# Altium schematic symbol library jlcpcb_2025_04_inductors_extended_1008.schlib: 378 symbols (part 5 of 7)
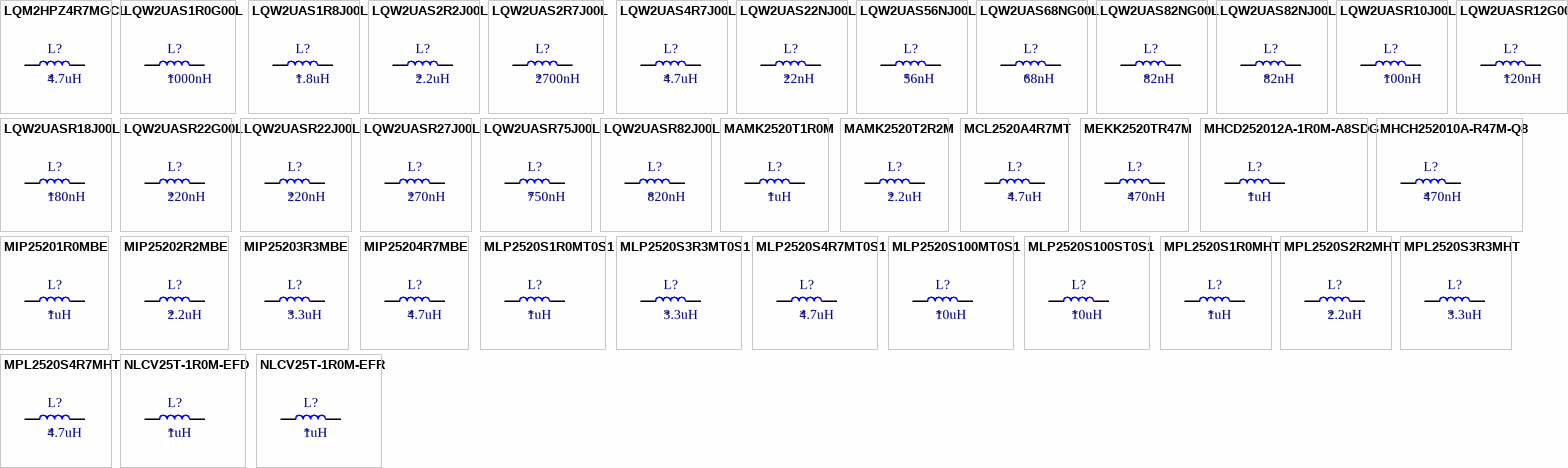
[diagram p13: symbols LQM2HPZ4R7MGCL to NLCV25T-1R0M-EFR]

## LQW2UASR18J00L
designator L?  Inductance: 180nH
Inductor, 180nH, ±5%, 770mΩ, 620mA, SMD 1008; Manufacturer: Murata Electronics; Manufacturer Part Number: LQW2UASR18J00L; Self-Resonant Frequency: 750MHz; Q Factor: 45@100MHz; Package Size: 1008; JLCPCB Basic Part: No; JLCPCB Part Number: C162664; Supplier 1: LCSC; Category: Inductors; Supplier Part Number 1: C162664; Tolerance: ±5%; Rated Current: 620mA; DC Resistance: 770mΩ; RoHS: Yes; ComponentLink1Description: Datasheet; ComponentLink1URL: https://wmsc.lcsc.com/wmsc/upload/file/pdf/v2/lcsc/2304140030_Murata-Electronics-LQW2UASR18J00L_C162664.pdf; ComponentLink2Description: JLCPCB Part URL; ComponentLink2URL: https://jlcpcb.com/partdetail/C162664; ComponentLink3Description: LCSC Part URL; ComponentLink3URL: https://lcsc.com/product-detail/Inductors-SMD_Murata-Electronics-Murata-Electronics-LQW2UASR18J00L_C162664.html
footprint IND-1008 (1008 (2520M) Inductor)
pins: 1, 2

## LQW2UASR22G00L
designator L?  Inductance: 220nH
Inductor, 220nH, ±2%, 840mΩ, 500mA, SMD 1008; Manufacturer: Murata Electronics; Manufacturer Part Number: LQW2UASR22G00L; Package Size: 1008; JLCPCB Basic Part: No; JLCPCB Part Number: C703148; Supplier 1: LCSC; Category: Inductors; Supplier Part Number 1: C703148; Tolerance: ±2%; Rated Current: 500mA; DC Resistance: 840mΩ; RoHS: Yes; ComponentLink1Description: Datasheet; ComponentLink1URL: https://wmsc.lcsc.com/wmsc/upload/file/pdf/v2/lcsc/2304140030_Murata-Electronics-LQW2UASR22G00L_C703148.pdf; ComponentLink2Description: JLCPCB Part URL; ComponentLink2URL: https://jlcpcb.com/partdetail/C703148; ComponentLink3Description: LCSC Part URL; ComponentLink3URL: https://lcsc.com/product-detail/Power-Inductors_Murata-Electronics-Murata-Electronics-LQW2UASR22G00L_C703148.html
footprint IND-1008 (1008 (2520M) Inductor)
pins: 1, 2

## LQW2UASR22J00L
designator L?  Inductance: 220nH
Inductor, 220nH, ±5%, 840mΩ, SMD 1008; Manufacturer: Murata Electronics; Manufacturer Part Number: LQW2UASR22J00L; Self-Resonant Frequency: 700MHz; Q Factor: 45@100MHz; Package Size: 1008; JLCPCB Basic Part: No; JLCPCB Part Number: C162665; Supplier 1: LCSC; Category: Inductors; Supplier Part Number 1: C162665; Tolerance: ±5%; DC Resistance: 840mΩ; RoHS: Yes; ComponentLink1Description: Datasheet; ComponentLink1URL: https://wmsc.lcsc.com/wmsc/upload/file/pdf/v2/lcsc/2304140030_Murata-Electronics-LQW2UASR22J00L_C162665.pdf; ComponentLink2Description: JLCPCB Part URL; ComponentLink2URL: https://jlcpcb.com/partdetail/C162665; ComponentLink3Description: LCSC Part URL; ComponentLink3URL: https://lcsc.com/product-detail/Inductors-SMD_Murata-Electronics-Murata-Electronics-LQW2UASR22J00L_C162665.html
footprint IND-1008 (1008 (2520M) Inductor)
pins: 1, 2

## LQW2UASR27J00L
designator L?  Inductance: 270nH
Inductor, 270nH, ±5%, 910mΩ, 500mA, SMD 1008; Manufacturer: Murata Electronics; Manufacturer Part Number: LQW2UASR27J00L; Package Size: 1008; JLCPCB Basic Part: No; JLCPCB Part Number: C703705; Supplier 1: LCSC; Category: Inductors; Supplier Part Number 1: C703705; Tolerance: ±5%; Rated Current: 500mA; DC Resistance: 910mΩ; RoHS: Yes; ComponentLink1Description: Datasheet; ComponentLink1URL: https://wmsc.lcsc.com/wmsc/upload/file/pdf/v2/lcsc/2304140030_Murata-Electronics-LQW2UASR27J00L_C703705.pdf; ComponentLink2Description: JLCPCB Part URL; ComponentLink2URL: https://jlcpcb.com/partdetail/C703705; ComponentLink3Description: LCSC Part URL; ComponentLink3URL: https://lcsc.com/product-detail/Power-Inductors_Murata-Electronics-Murata-Electronics-LQW2UASR27J00L_C703705.html
footprint IND-1008 (1008 (2520M) Inductor)
pins: 1, 2

## LQW2UASR75J00L
designator L?  Inductance: 750nH
Inductor, 750nH, ±5%, 1.54Ω, SMD 1008; Manufacturer: Murata Electronics; Manufacturer Part Number: LQW2UASR75J00L; Self-Resonant Frequency: 360MHz; Q Factor: 45@100MHz; Package Size: 1008; JLCPCB Basic Part: No; JLCPCB Part Number: C162667; Supplier 1: LCSC; Category: Inductors; Supplier Part Number 1: C162667; Tolerance: ±5%; DC Resistance: 1.54Ω; RoHS: Yes; ComponentLink1Description: Datasheet; ComponentLink1URL: https://wmsc.lcsc.com/wmsc/upload/file/pdf/v2/lcsc/2304140030_Murata-Electronics-LQW2UASR75J00L_C162667.pdf; ComponentLink2Description: JLCPCB Part URL; ComponentLink2URL: https://jlcpcb.com/partdetail/C162667; ComponentLink3Description: LCSC Part URL; ComponentLink3URL: https://lcsc.com/product-detail/Inductors-SMD_Murata-Electronics-Murata-Electronics-LQW2UASR75J00L_C162667.html
footprint IND-1008 (1008 (2520M) Inductor)
pins: 1, 2

## LQW2UASR82J00L
designator L?  Inductance: 820nH
Inductor, 820nH, ±5%, 1.61Ω, 400mA, SMD 1008; Manufacturer: Murata Electronics; Manufacturer Part Number: LQW2UASR82J00L; Package Size: 1008; JLCPCB Basic Part: No; JLCPCB Part Number: C701161; Supplier 1: LCSC; Category: Inductors; Supplier Part Number 1: C701161; Tolerance: ±5%; Rated Current: 400mA; DC Resistance: 1.61Ω; RoHS: Yes; ComponentLink1Description: Datasheet; ComponentLink1URL: https://wmsc.lcsc.com/wmsc/upload/file/pdf/v2/lcsc/2009241508_Murata-Electronics-LQW2UASR82J00L_C701161.pdf; ComponentLink2Description: JLCPCB Part URL; ComponentLink2URL: https://jlcpcb.com/partdetail/C701161; ComponentLink3Description: LCSC Part URL; ComponentLink3URL: https://lcsc.com/product-detail/Power-Inductors_Murata-Electronics-Murata-Electronics-LQW2UASR82J00L_C701161.html
footprint IND-1008 (1008 (2520M) Inductor)
pins: 1, 2

## MAMK2520T1R0M
designator L?  Inductance: 1uH
Inductor, 1uH, ±20%, 59mΩ, 2.7A, SMD 1008; Manufacturer: Taiyo Yuden; Manufacturer Part Number: MAMK2520T1R0M; Package Size: 1008; JLCPCB Basic Part: No; JLCPCB Part Number: C92924; Supplier 1: LCSC; Category: Inductors; Supplier Part Number 1: C92924; Tolerance: ±20%; Rated Current: 2.7A; DC Resistance: 59mΩ; RoHS: Yes; ComponentLink1Description: Datasheet; ComponentLink1URL: https://wmsc.lcsc.com/wmsc/upload/file/pdf/v2/lcsc/1809191953_Taiyo-Yuden-MAMK2520T1R0M_C92924.pdf; ComponentLink2Description: JLCPCB Part URL; ComponentLink2URL: https://jlcpcb.com/partdetail/C92924; ComponentLink3Description: LCSC Part URL; ComponentLink3URL: https://lcsc.com/product-detail/Inductors-SMD_Taiyo-Yuden-Taiyo-Yuden-MAMK2520T1R0M_C92924.html
footprint IND-1008 (1008 (2520M) Inductor)
pins: 1, 2

## MAMK2520T2R2M
designator L?  Inductance: 2.2uH
Inductor, 2.2uH, ±20%, 117mΩ, 1.9A, SMD 1008; Manufacturer: Taiyo Yuden; Manufacturer Part Number: MAMK2520T2R2M; Package Size: 1008; JLCPCB Basic Part: No; JLCPCB Part Number: C92925; Supplier 1: LCSC; Category: Inductors; Supplier Part Number 1: C92925; Tolerance: ±20%; Rated Current: 1.9A; DC Resistance: 117mΩ; RoHS: Yes; ComponentLink1Description: Datasheet; ComponentLink1URL: https://wmsc.lcsc.com/wmsc/upload/file/pdf/v2/lcsc/1806130414_Taiyo-Yuden-MAMK2520T2R2M_C92925.pdf; ComponentLink2Description: JLCPCB Part URL; ComponentLink2URL: https://jlcpcb.com/partdetail/C92925; ComponentLink3Description: LCSC Part URL; ComponentLink3URL: https://lcsc.com/product-detail/Inductors-SMD_Taiyo-Yuden-Taiyo-Yuden-MAMK2520T2R2M_C92925.html
footprint IND-1008 (1008 (2520M) Inductor)
pins: 1, 2

## MCL2520A4R7MT
designator L?  Inductance: 4.7uH
Inductor, 4.7uH, ±20%, 280mΩ, 950mA, SMD 1008; Manufacturer: Sunlord; Manufacturer Part Number: MCL2520A4R7MT; Saturation Current: 250mA; Package Size: 1008; JLCPCB Basic Part: No; JLCPCB Part Number: C370014; Supplier 1: LCSC; Category: Inductors; Supplier Part Number 1: C370014; Tolerance: ±20%; Rated Current: 950mA; DC Resistance: 280mΩ; RoHS: Yes; ComponentLink1Description: Datasheet; ComponentLink1URL: https://wmsc.lcsc.com/wmsc/upload/file/pdf/v2/lcsc/2310301640_Sunlord-MCL2520A4R7MT_C370014.pdf; ComponentLink2Description: JLCPCB Part URL; ComponentLink2URL: https://jlcpcb.com/partdetail/C370014; ComponentLink3Description: LCSC Part URL; ComponentLink3URL: https://lcsc.com/product-detail/Inductors-SMD_Sunlord-Sunlord-MCL2520A4R7MT_C370014.html
footprint IND-1008 (1008 (2520M) Inductor)
pins: 1, 2

## MEKK2520TR47M
designator L?  Inductance: 470nH
Inductor, 470nH, ±20%, 25mΩ, 4.8A, SMD 1008; Manufacturer: Taiyo Yuden; Manufacturer Part Number: MEKK2520TR47M; Package Size: 1008; JLCPCB Basic Part: No; JLCPCB Part Number: C519277; Supplier 1: LCSC; Category: Inductors; Supplier Part Number 1: C519277; Tolerance: ±20%; Rated Current: 4.8A; DC Resistance: 25mΩ; RoHS: Yes; ComponentLink1Description: Datasheet; ComponentLink1URL: https://wmsc.lcsc.com/wmsc/upload/file/pdf/v2/lcsc/2004231532_Taiyo-Yuden-MEKK2520TR47M_C519277.pdf; ComponentLink2Description: JLCPCB Part URL; ComponentLink2URL: https://jlcpcb.com/partdetail/C519277; ComponentLink3Description: LCSC Part URL; ComponentLink3URL: https://lcsc.com/product-detail/Inductors-SMD_Taiyo-Yuden-Taiyo-Yuden-MEKK2520TR47M_C519277.html
footprint IND-1008 (1008 (2520M) Inductor)
pins: 1, 2

## MHCD252012A-1R0M-A8SDG
designator L?  Inductance: 1uH
Inductor, 1uH, ±20%, SMD 1008; Manufacturer: Chilisin Elec; Manufacturer Part Number: MHCD252012A-1R0M-A8SDG; Package Size: 1008; JLCPCB Basic Part: No; JLCPCB Part Number: C2991848; Supplier 1: LCSC; Category: Inductors; Supplier Part Number 1: C2991848; Tolerance: ±20%; RoHS: Yes; ComponentLink1Description: Datasheet; ComponentLink2Description: JLCPCB Part URL; ComponentLink2URL: https://jlcpcb.com/partdetail/C2991848; ComponentLink3Description: LCSC Part URL; ComponentLink3URL: https://lcsc.com/product-detail/Inductors-SMD_Chilisin-Elec-Chilisin-Elec-MHCD252012A-1R0M-A8SDG_C2991848.html
footprint IND-1008 (1008 (2520M) Inductor)
pins: 1, 2

## MHCH252010A-R47M-Q8
designator L?  Inductance: 470nH
Inductor, 470nH, ±20%, SMD 1008; Manufacturer: Chilisin Elec; Manufacturer Part Number: MHCH252010A-R47M-Q8; Package Size: 1008; JLCPCB Basic Part: No; JLCPCB Part Number: C2981231; Supplier 1: LCSC; Category: Inductors; Supplier Part Number 1: C2981231; Tolerance: ±20%; RoHS: Yes; ComponentLink1Description: Datasheet; ComponentLink1URL: https://wmsc.lcsc.com/wmsc/upload/file/pdf/v2/lcsc/2203252253_Chilisin-Elec-MHCH252010A-R47M-Q8_C2981231.pdf; ComponentLink2Description: JLCPCB Part URL; ComponentLink2URL: https://jlcpcb.com/partdetail/C2981231; ComponentLink3Description: LCSC Part URL; ComponentLink3URL: https://lcsc.com/product-detail/Inductors-SMD_Chilisin-Elec-Chilisin-Elec-MHCH252010A-R47M-Q8_C2981231.html
footprint IND-1008 (1008 (2520M) Inductor)
pins: 1, 2

## MIP25201R0MBE
designator L?  Inductance: 1uH
Inductor, 1uH, ±20%, 55mΩ, 1.6A, SMD 1008; Manufacturer: INPAQ; Manufacturer Part Number: MIP25201R0MBE; Package Size: 1008; JLCPCB Basic Part: No; JLCPCB Part Number: C315722; Supplier 1: LCSC; Category: Inductors; Supplier Part Number 1: C315722; Tolerance: ±20%; Rated Current: 1.6A; DC Resistance: 55mΩ; RoHS: Yes; ComponentLink1Description: Datasheet; ComponentLink1URL: https://wmsc.lcsc.com/wmsc/upload/file/pdf/v2/lcsc/2304140030_INPAQ-MIP25201R0MBE_C315722.pdf; ComponentLink2Description: JLCPCB Part URL; ComponentLink2URL: https://jlcpcb.com/partdetail/C315722; ComponentLink3Description: LCSC Part URL; ComponentLink3URL: https://lcsc.com/product-detail/Inductors-SMD_INPAQ-INPAQ-MIP25201R0MBE_C315722.html
footprint IND-1008 (1008 (2520M) Inductor)
pins: 1, 2

## MIP25202R2MBE
designator L?  Inductance: 2.2uH
Inductor, 2.2uH, ±20%, 80mΩ, 1.3A, SMD 1008; Manufacturer: INPAQ; Manufacturer Part Number: MIP25202R2MBE; Package Size: 1008; JLCPCB Basic Part: No; JLCPCB Part Number: C315721; Supplier 1: LCSC; Category: Inductors; Supplier Part Number 1: C315721; Tolerance: ±20%; Rated Current: 1.3A; DC Resistance: 80mΩ; RoHS: Yes; ComponentLink1Description: Datasheet; ComponentLink1URL: https://wmsc.lcsc.com/wmsc/upload/file/pdf/v2/lcsc/2304140030_INPAQ-MIP25202R2MBE_C315721.pdf; ComponentLink2Description: JLCPCB Part URL; ComponentLink2URL: https://jlcpcb.com/partdetail/C315721; ComponentLink3Description: LCSC Part URL; ComponentLink3URL: https://lcsc.com/product-detail/Inductors-SMD_INPAQ-INPAQ-MIP25202R2MBE_C315721.html
footprint IND-1008 (1008 (2520M) Inductor)
pins: 1, 2

## MIP25203R3MBE
designator L?  Inductance: 3.3uH
Inductor, 3.3uH, ±20%, 100mΩ, 1.2A, SMD 1008; Manufacturer: INPAQ; Manufacturer Part Number: MIP25203R3MBE; Package Size: 1008; JLCPCB Basic Part: No; JLCPCB Part Number: C315720; Supplier 1: LCSC; Category: Inductors; Supplier Part Number 1: C315720; Tolerance: ±20%; Rated Current: 1.2A; DC Resistance: 100mΩ; RoHS: Yes; ComponentLink1Description: Datasheet; ComponentLink1URL: https://wmsc.lcsc.com/wmsc/upload/file/pdf/v2/lcsc/2304140030_INPAQ-MIP25203R3MBE_C315720.pdf; ComponentLink2Description: JLCPCB Part URL; ComponentLink2URL: https://jlcpcb.com/partdetail/C315720; ComponentLink3Description: LCSC Part URL; ComponentLink3URL: https://lcsc.com/product-detail/Inductors-SMD_INPAQ-INPAQ-MIP25203R3MBE_C315720.html
footprint IND-1008 (1008 (2520M) Inductor)
pins: 1, 2

## MIP25204R7MBE
designator L?  Inductance: 4.7uH
Inductor, 4.7uH, ±20%, 110mΩ, 1.1A, SMD 1008; Manufacturer: INPAQ; Manufacturer Part Number: MIP25204R7MBE; Package Size: 1008; JLCPCB Basic Part: No; JLCPCB Part Number: C315719; Supplier 1: LCSC; Category: Inductors; Supplier Part Number 1: C315719; Tolerance: ±20%; Rated Current: 1.1A; DC Resistance: 110mΩ; RoHS: Yes; ComponentLink1Description: Datasheet; ComponentLink1URL: https://wmsc.lcsc.com/wmsc/upload/file/pdf/v2/lcsc/2304140030_INPAQ-MIP25204R7MBE_C315719.pdf; ComponentLink2Description: JLCPCB Part URL; ComponentLink2URL: https://jlcpcb.com/partdetail/C315719; ComponentLink3Description: LCSC Part URL; ComponentLink3URL: https://lcsc.com/product-detail/Inductors-SMD_INPAQ-INPAQ-MIP25204R7MBE_C315719.html
footprint IND-1008 (1008 (2520M) Inductor)
pins: 1, 2

## MLP2520S1R0MT0S1
designator L?  Inductance: 1uH
Inductor, 1uH, ±20%, 110.5mΩ, 1.5A, SMD 1008; Manufacturer: TDK; Manufacturer Part Number: MLP2520S1R0MT0S1; Package Size: 1008; JLCPCB Basic Part: No; JLCPCB Part Number: C76795; Supplier 1: LCSC; Category: Inductors; Supplier Part Number 1: C76795; Tolerance: ±20%; Rated Current: 1.5A; DC Resistance: 110.5mΩ; RoHS: Yes; ComponentLink1Description: Datasheet; ComponentLink1URL: https://wmsc.lcsc.com/wmsc/upload/file/pdf/v2/lcsc/2304140030_TDK-MLP2520S1R0MT0S1_C76795.pdf; ComponentLink2Description: JLCPCB Part URL; ComponentLink2URL: https://jlcpcb.com/partdetail/C76795; ComponentLink3Description: LCSC Part URL; ComponentLink3URL: https://lcsc.com/product-detail/Inductors-SMD_TDK-TDK-MLP2520S1R0MT0S1_C76795.html
footprint IND-1008 (1008 (2520M) Inductor)
pins: 1, 2

## MLP2520S3R3MT0S1
designator L?  Inductance: 3.3uH
Inductor, 3.3uH, ±20%, 130mΩ, 1A, SMD 1008; Manufacturer: TDK; Manufacturer Part Number: MLP2520S3R3MT0S1; Package Size: 1008; JLCPCB Basic Part: No; JLCPCB Part Number: C2049754; Supplier 1: LCSC; Category: Inductors; Supplier Part Number 1: C2049754; Tolerance: ±20%; Rated Current: 1A; DC Resistance: 130mΩ; RoHS: Yes; ComponentLink1Description: Datasheet; ComponentLink1URL: https://wmsc.lcsc.com/wmsc/upload/file/pdf/v2/lcsc/2304140030_TDK-MLP2520S3R3MT0S1_C2049754.pdf; ComponentLink2Description: JLCPCB Part URL; ComponentLink2URL: https://jlcpcb.com/partdetail/C2049754; ComponentLink3Description: LCSC Part URL; ComponentLink3URL: https://lcsc.com/product-detail/Inductors-SMD_TDK-TDK-MLP2520S3R3MT0S1_C2049754.html
footprint IND-1008 (1008 (2520M) Inductor)
pins: 1, 2

## MLP2520S4R7MT0S1
designator L?  Inductance: 4.7uH
Inductor, 4.7uH, ±20%, 130mΩ, 1A, SMD 1008; Manufacturer: TDK; Manufacturer Part Number: MLP2520S4R7MT0S1; Package Size: 1008; JLCPCB Basic Part: No; JLCPCB Part Number: C91237; Supplier 1: LCSC; Category: Inductors; Supplier Part Number 1: C91237; Tolerance: ±20%; Rated Current: 1A; DC Resistance: 130mΩ; RoHS: Yes; ComponentLink1Description: Datasheet; ComponentLink1URL: https://wmsc.lcsc.com/wmsc/upload/file/pdf/v2/lcsc/1810241907_TDK-MLP2520S4R7MT0S1_C91237.pdf; ComponentLink2Description: JLCPCB Part URL; ComponentLink2URL: https://jlcpcb.com/partdetail/C91237; ComponentLink3Description: LCSC Part URL; ComponentLink3URL: https://lcsc.com/product-detail/Inductors-SMD_TDK-TDK-MLP2520S4R7MT0S1_C91237.html
footprint IND-1008 (1008 (2520M) Inductor)
pins: 1, 2

## MLP2520S100MT0S1
designator L?  Inductance: 10uH
Inductor, 10uH, ±20%, 280mΩ, 700mA, SMD 1008; Manufacturer: TDK; Manufacturer Part Number: MLP2520S100MT0S1; Package Size: 1008; JLCPCB Basic Part: No; JLCPCB Part Number: C191565; Supplier 1: LCSC; Category: Inductors; Supplier Part Number 1: C191565; Tolerance: ±20%; Rated Current: 700mA; DC Resistance: 280mΩ; RoHS: Yes; ComponentLink1Description: Datasheet; ComponentLink1URL: https://wmsc.lcsc.com/wmsc/upload/file/pdf/v2/lcsc/1810241907_TDK-MLP2520S100MT0S1_C191565.pdf; ComponentLink2Description: JLCPCB Part URL; ComponentLink2URL: https://jlcpcb.com/partdetail/C191565; ComponentLink3Description: LCSC Part URL; ComponentLink3URL: https://lcsc.com/product-detail/Inductors-SMD_TDK-TDK-MLP2520S100MT0S1_C191565.html
footprint IND-1008 (1008 (2520M) Inductor)
pins: 1, 2

## MLP2520S100ST0S1
designator L?  Inductance: 10uH
Inductor, 10uH, ±20%, 280mΩ, 700mA, SMD 1008; Manufacturer: TDK; Manufacturer Part Number: MLP2520S100ST0S1; Package Size: 1008; JLCPCB Basic Part: No; JLCPCB Part Number: C2049757; Supplier 1: LCSC; Category: Inductors; Supplier Part Number 1: C2049757; Tolerance: ±20%; Rated Current: 700mA; DC Resistance: 280mΩ; RoHS: Yes; ComponentLink1Description: Datasheet; ComponentLink1URL: https://wmsc.lcsc.com/wmsc/upload/file/pdf/v2/lcsc/2202010500_TDK-MLP2520S100ST0S1_C2049757.pdf; ComponentLink2Description: JLCPCB Part URL; ComponentLink2URL: https://jlcpcb.com/partdetail/C2049757; ComponentLink3Description: LCSC Part URL; ComponentLink3URL: https://lcsc.com/product-detail/Inductors-SMD_TDK-TDK-MLP2520S100ST0S1_C2049757.html
footprint IND-1008 (1008 (2520M) Inductor)
pins: 1, 2

## MPL2520S1R0MHT
designator L?  Inductance: 1uH
Inductor, 1uH, ±20%, 100mΩ, 1.6A, SMD 1008; Manufacturer: Sunlord; Manufacturer Part Number: MPL2520S1R0MHT; Package Size: 1008; JLCPCB Basic Part: No; JLCPCB Part Number: C98337; Supplier 1: LCSC; Category: Inductors; Supplier Part Number 1: C98337; Tolerance: ±20%; Rated Current: 1.6A; DC Resistance: 100mΩ; RoHS: Yes; ComponentLink1Description: Datasheet; ComponentLink1URL: https://wmsc.lcsc.com/wmsc/upload/file/pdf/v2/lcsc/2304140030_Sunlord-MPL2520S1R0MHT_C98337.pdf; ComponentLink2Description: JLCPCB Part URL; ComponentLink2URL: https://jlcpcb.com/partdetail/C98337; ComponentLink3Description: LCSC Part URL; ComponentLink3URL: https://lcsc.com/product-detail/Inductors-SMD_Sunlord-Sunlord-MPL2520S1R0MHT_C98337.html
footprint IND-1008 (1008 (2520M) Inductor)
pins: 1, 2

## MPL2520S2R2MHT
designator L?  Inductance: 2.2uH
Inductor, 2.2uH, ±20%, SMD 1008; Manufacturer: Sunlord; Manufacturer Part Number: MPL2520S2R2MHT; Package Size: 1008; JLCPCB Basic Part: No; JLCPCB Part Number: C98338; Supplier 1: LCSC; Category: Inductors; Supplier Part Number 1: C98338; Tolerance: ±20%; RoHS: Yes; ComponentLink1Description: Datasheet; ComponentLink1URL: https://wmsc.lcsc.com/wmsc/upload/file/pdf/v2/lcsc/2304140030_Sunlord-MPL2520S2R2MHT_C98338.pdf; ComponentLink2Description: JLCPCB Part URL; ComponentLink2URL: https://jlcpcb.com/partdetail/C98338; ComponentLink3Description: LCSC Part URL; ComponentLink3URL: https://lcsc.com/product-detail/Inductors-SMD_Sunlord-Sunlord-MPL2520S2R2MHT_C98338.html
footprint IND-1008 (1008 (2520M) Inductor)
pins: 1, 2

## MPL2520S3R3MHT
designator L?  Inductance: 3.3uH
Inductor, 3.3uH, ±20%, 100mΩ, 1.2A, SMD 1008; Manufacturer: Sunlord; Manufacturer Part Number: MPL2520S3R3MHT; Package Size: 1008; JLCPCB Basic Part: No; JLCPCB Part Number: C98339; Supplier 1: LCSC; Category: Inductors; Supplier Part Number 1: C98339; Tolerance: ±20%; Rated Current: 1.2A; DC Resistance: 100mΩ; RoHS: Yes; ComponentLink1Description: Datasheet; ComponentLink1URL: https://wmsc.lcsc.com/wmsc/upload/file/pdf/v2/lcsc/2304140030_Sunlord-MPL2520S3R3MHT_C98339.pdf; ComponentLink2Description: JLCPCB Part URL; ComponentLink2URL: https://jlcpcb.com/partdetail/C98339; ComponentLink3Description: LCSC Part URL; ComponentLink3URL: https://lcsc.com/product-detail/Inductors-SMD_Sunlord-Sunlord-MPL2520S3R3MHT_C98339.html
footprint IND-1008 (1008 (2520M) Inductor)
pins: 1, 2

## MPL2520S4R7MHT
designator L?  Inductance: 4.7uH
Inductor, 4.7uH, ±20%, 110mΩ, 1.1A, SMD 1008; Manufacturer: Sunlord; Manufacturer Part Number: MPL2520S4R7MHT; Package Size: 1008; JLCPCB Basic Part: No; JLCPCB Part Number: C98340; Supplier 1: LCSC; Category: Inductors; Supplier Part Number 1: C98340; Tolerance: ±20%; Rated Current: 1.1A; DC Resistance: 110mΩ; RoHS: Yes; ComponentLink1Description: Datasheet; ComponentLink1URL: https://wmsc.lcsc.com/wmsc/upload/file/pdf/v2/lcsc/2304140030_Sunlord-MPL2520S4R7MHT_C98340.pdf; ComponentLink2Description: JLCPCB Part URL; ComponentLink2URL: https://jlcpcb.com/partdetail/C98340; ComponentLink3Description: LCSC Part URL; ComponentLink3URL: https://lcsc.com/product-detail/Inductors-SMD_Sunlord-Sunlord-MPL2520S4R7MHT_C98340.html
footprint IND-1008 (1008 (2520M) Inductor)
pins: 1, 2

## NLCV25T-1R0M-EFD
designator L?  Inductance: 1uH
Inductor, 1uH, ±20%, 340mΩ, 475mA, SMD 1008; Manufacturer: TDK; Manufacturer Part Number: NLCV25T-1R0M-EFD; Self-Resonant Frequency: 200MHz; Q Factor: 20@7.96MHz; Package Size: 1008; JLCPCB Basic Part: No; JLCPCB Part Number: C295373; Supplier 1: LCSC; Category: Inductors; Supplier Part Number 1: C295373; Tolerance: ±20%; Rated Current: 475mA; DC Resistance: 340mΩ; RoHS: Yes; ComponentLink1Description: Datasheet; ComponentLink1URL: https://wmsc.lcsc.com/wmsc/upload/file/pdf/v2/lcsc/2304140030_TDK-NLCV25T-1R0M-EFD_C295373.pdf; ComponentLink2Description: JLCPCB Part URL; ComponentLink2URL: https://jlcpcb.com/partdetail/C295373; ComponentLink3Description: LCSC Part URL; ComponentLink3URL: https://lcsc.com/product-detail/Inductors-SMD_TDK-TDK-NLCV25T-1R0M-EFD_C295373.html
footprint IND-1008 (1008 (2520M) Inductor)
pins: 1, 2

## NLCV25T-1R0M-EFR
designator L?  Inductance: 1uH
Inductor, 1uH, ±20%, 140mΩ, 1A, SMD 1008; Manufacturer: TDK; Manufacturer Part Number: NLCV25T-1R0M-EFR; Q Factor: 10@7.96MHz; Package Size: 1008; JLCPCB Basic Part: No; JLCPCB Part Number: C286537; Supplier 1: LCSC; Category: Inductors; Supplier Part Number 1: C286537; Tolerance: ±20%; Rated Current: 1A; DC Resistance: 140mΩ; RoHS: Yes; ComponentLink1Description: Datasheet; ComponentLink1URL: https://wmsc.lcsc.com/wmsc/upload/file/pdf/v2/lcsc/2304140030_TDK-NLCV25T-1R0M-EFR_C286537.pdf; ComponentLink2Description: JLCPCB Part URL; ComponentLink2URL: https://jlcpcb.com/partdetail/C286537; ComponentLink3Description: LCSC Part URL; ComponentLink3URL: https://lcsc.com/product-detail/Inductors-SMD_TDK-TDK-NLCV25T-1R0M-EFR_C286537.html
footprint IND-1008 (1008 (2520M) Inductor)
pins: 1, 2

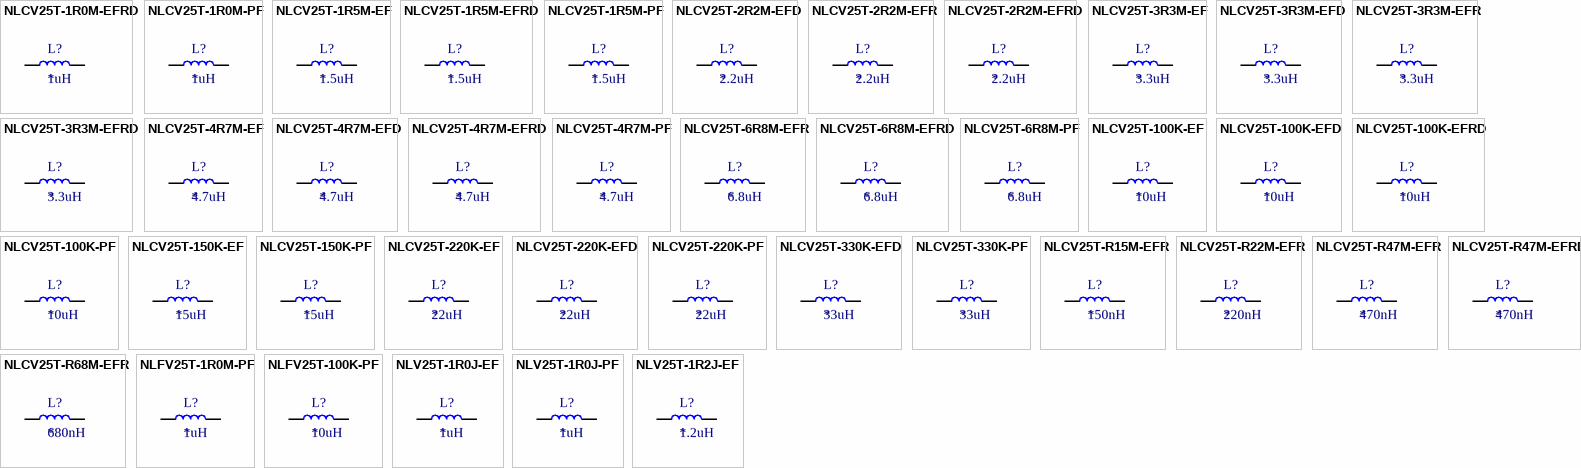
[diagram p6: symbols NLCV25T-1R0M-EFRD to NLV25T-1R2J-EF]

## NLCV25T-1R0M-EFRD
designator L?  Inductance: 1uH
Inductor, 1uH, ±20%, 140mΩ, 1A, SMD 1008; Manufacturer: TDK; Manufacturer Part Number: NLCV25T-1R0M-EFRD; Self-Resonant Frequency: 100MHz; Q Factor: 10@7.96MHz; Package Size: 1008; JLCPCB Basic Part: No; JLCPCB Part Number: C295389; Supplier 1: LCSC; Category: Inductors; Supplier Part Number 1: C295389; Tolerance: ±20%; Rated Current: 1A; DC Resistance: 140mΩ; RoHS: Yes; ComponentLink1Description: Datasheet; ComponentLink1URL: https://wmsc.lcsc.com/wmsc/upload/file/pdf/v2/lcsc/2304140030_TDK-NLCV25T-1R0M-EFRD_C295389.pdf; ComponentLink2Description: JLCPCB Part URL; ComponentLink2URL: https://jlcpcb.com/partdetail/C295389; ComponentLink3Description: LCSC Part URL; ComponentLink3URL: https://lcsc.com/product-detail/Inductors-SMD_TDK-TDK-NLCV25T-1R0M-EFRD_C295389.html
footprint IND-1008 (1008 (2520M) Inductor)
pins: 1, 2

## NLCV25T-1R0M-PF
designator L?  Inductance: 1uH
Inductor, 1uH, ±20%, 340mΩ, 475mA, SMD 1008; Manufacturer: TDK; Manufacturer Part Number: NLCV25T-1R0M-PF; Q Factor: 20@7.96MHz; Package Size: 1008; JLCPCB Basic Part: No; JLCPCB Part Number: C250132; Supplier 1: LCSC; Category: Inductors; Supplier Part Number 1: C250132; Tolerance: ±20%; Rated Current: 475mA; DC Resistance: 340mΩ; RoHS: Yes; ComponentLink1Description: Datasheet; ComponentLink1URL: https://wmsc.lcsc.com/wmsc/upload/file/pdf/v2/lcsc/2304140030_TDK-NLCV25T-1R0M-PF_C250132.pdf; ComponentLink2Description: JLCPCB Part URL; ComponentLink2URL: https://jlcpcb.com/partdetail/C250132; ComponentLink3Description: LCSC Part URL; ComponentLink3URL: https://lcsc.com/product-detail/Inductors-SMD_TDK-TDK-NLCV25T-1R0M-PF_C250132.html
footprint IND-1008 (1008 (2520M) Inductor)
pins: 1, 2

## NLCV25T-1R5M-EF
designator L?  Inductance: 1.5uH
Inductor, 1.5uH, ±20%, 420mΩ, 435mA, SMD 1008; Manufacturer: TDK; Manufacturer Part Number: NLCV25T-1R5M-EF; Q Factor: 20@7.96MHz; Package Size: 1008; JLCPCB Basic Part: No; JLCPCB Part Number: C250216; Supplier 1: LCSC; Category: Inductors; Supplier Part Number 1: C250216; Tolerance: ±20%; Rated Current: 435mA; DC Resistance: 420mΩ; RoHS: Yes; ComponentLink1Description: Datasheet; ComponentLink1URL: https://wmsc.lcsc.com/wmsc/upload/file/pdf/v2/lcsc/2304140030_TDK-NLCV25T-1R5M-EF_C250216.pdf; ComponentLink2Description: JLCPCB Part URL; ComponentLink2URL: https://jlcpcb.com/partdetail/C250216; ComponentLink3Description: LCSC Part URL; ComponentLink3URL: https://lcsc.com/product-detail/Inductors-SMD_TDK-TDK-NLCV25T-1R5M-EF_C250216.html
footprint IND-1008 (1008 (2520M) Inductor)
pins: 1, 2

## NLCV25T-1R5M-EFRD
designator L?  Inductance: 1.5uH
Inductor, 1.5uH, ±20%, 180mΩ, 890mA, SMD 1008; Manufacturer: TDK; Manufacturer Part Number: NLCV25T-1R5M-EFRD; Q Factor: 10@7.96MHz; Package Size: 1008; JLCPCB Basic Part: No; JLCPCB Part Number: C295390; Supplier 1: LCSC; Category: Inductors; Supplier Part Number 1: C295390; Tolerance: ±20%; Rated Current: 890mA; DC Resistance: 180mΩ; RoHS: Yes; ComponentLink1Description: Datasheet; ComponentLink1URL: https://wmsc.lcsc.com/wmsc/upload/file/pdf/v2/lcsc/2304140030_TDK-NLCV25T-1R5M-EFRD_C295390.pdf; ComponentLink2Description: JLCPCB Part URL; ComponentLink2URL: https://jlcpcb.com/partdetail/C295390; ComponentLink3Description: LCSC Part URL; ComponentLink3URL: https://lcsc.com/product-detail/Inductors-SMD_TDK-TDK-NLCV25T-1R5M-EFRD_C295390.html
footprint IND-1008 (1008 (2520M) Inductor)
pins: 1, 2

## NLCV25T-1R5M-PF
designator L?  Inductance: 1.5uH
Inductor, 1.5uH, ±20%, 420mΩ, 435mA, SMD 1008; Manufacturer: TDK; Manufacturer Part Number: NLCV25T-1R5M-PF; Q Factor: 20@7.96MHz; Package Size: 1008; JLCPCB Basic Part: No; JLCPCB Part Number: C250133; Supplier 1: LCSC; Category: Inductors; Supplier Part Number 1: C250133; Tolerance: ±20%; Rated Current: 435mA; DC Resistance: 420mΩ; RoHS: Yes; ComponentLink1Description: Datasheet; ComponentLink1URL: https://wmsc.lcsc.com/wmsc/upload/file/pdf/v2/lcsc/2304140030_TDK-NLCV25T-1R5M-PF_C250133.pdf; ComponentLink2Description: JLCPCB Part URL; ComponentLink2URL: https://jlcpcb.com/partdetail/C250133; ComponentLink3Description: LCSC Part URL; ComponentLink3URL: https://lcsc.com/product-detail/Inductors-SMD_TDK-TDK-NLCV25T-1R5M-PF_C250133.html
footprint IND-1008 (1008 (2520M) Inductor)
pins: 1, 2

## NLCV25T-2R2M-EFD
designator L?  Inductance: 2.2uH
Inductor, 2.2uH, ±20%, 500mΩ, 390mA, SMD 1008; Manufacturer: TDK; Manufacturer Part Number: NLCV25T-2R2M-EFD; Self-Resonant Frequency: 95MHz; Q Factor: 20@7.96MHz; Package Size: 1008; JLCPCB Basic Part: No; JLCPCB Part Number: C295375; Supplier 1: LCSC; Category: Inductors; Supplier Part Number 1: C295375; Tolerance: ±20%; Rated Current: 390mA; DC Resistance: 500mΩ; RoHS: Yes; ComponentLink1Description: Datasheet; ComponentLink1URL: https://wmsc.lcsc.com/wmsc/upload/file/pdf/v2/lcsc/2304140030_TDK-NLCV25T-2R2M-EFD_C295375.pdf; ComponentLink2Description: JLCPCB Part URL; ComponentLink2URL: https://jlcpcb.com/partdetail/C295375; ComponentLink3Description: LCSC Part URL; ComponentLink3URL: https://lcsc.com/product-detail/Inductors-SMD_TDK-TDK-NLCV25T-2R2M-EFD_C295375.html
footprint IND-1008 (1008 (2520M) Inductor)
pins: 1, 2

## NLCV25T-2R2M-EFR
designator L?  Inductance: 2.2uH
Inductor, 2.2uH, ±20%, 270mΩ, 730mA, SMD 1008; Manufacturer: TDK; Manufacturer Part Number: NLCV25T-2R2M-EFR; Self-Resonant Frequency: 68MHz; Q Factor: 10@7.96MHz; Package Size: 1008; JLCPCB Basic Part: No; JLCPCB Part Number: C295199; Supplier 1: LCSC; Category: Inductors; Supplier Part Number 1: C295199; Tolerance: ±20%; Rated Current: 730mA; DC Resistance: 270mΩ; RoHS: Yes; ComponentLink1Description: Datasheet; ComponentLink1URL: https://wmsc.lcsc.com/wmsc/upload/file/pdf/v2/lcsc/2304140030_TDK-NLCV25T-2R2M-EFR_C295199.pdf; ComponentLink2Description: JLCPCB Part URL; ComponentLink2URL: https://jlcpcb.com/partdetail/C295199; ComponentLink3Description: LCSC Part URL; ComponentLink3URL: https://lcsc.com/product-detail/Inductors-SMD_TDK-TDK-NLCV25T-2R2M-EFR_C295199.html
footprint IND-1008 (1008 (2520M) Inductor)
pins: 1, 2

## NLCV25T-2R2M-EFRD
designator L?  Inductance: 2.2uH
Inductor, 2.2uH, ±20%, 270mΩ, 730mA, SMD 1008; Manufacturer: TDK; Manufacturer Part Number: NLCV25T-2R2M-EFRD; Q Factor: 10@7.96MHz; Package Size: 1008; JLCPCB Basic Part: No; JLCPCB Part Number: C295391; Supplier 1: LCSC; Category: Inductors; Supplier Part Number 1: C295391; Tolerance: ±20%; Rated Current: 730mA; DC Resistance: 270mΩ; RoHS: Yes; ComponentLink1Description: Datasheet; ComponentLink1URL: https://wmsc.lcsc.com/wmsc/upload/file/pdf/v2/lcsc/2304140030_TDK-NLCV25T-2R2M-EFRD_C295391.pdf; ComponentLink2Description: JLCPCB Part URL; ComponentLink2URL: https://jlcpcb.com/partdetail/C295391; ComponentLink3Description: LCSC Part URL; ComponentLink3URL: https://lcsc.com/product-detail/Inductors-SMD_TDK-TDK-NLCV25T-2R2M-EFRD_C295391.html
footprint IND-1008 (1008 (2520M) Inductor)
pins: 1, 2

## NLCV25T-3R3M-EF
designator L?  Inductance: 3.3uH
Inductor, 3.3uH, ±20%, 650mΩ, 340mA, SMD 1008; Manufacturer: TDK; Manufacturer Part Number: NLCV25T-3R3M-EF; Q Factor: 20@7.96MHz; Package Size: 1008; JLCPCB Basic Part: No; JLCPCB Part Number: C250218; Supplier 1: LCSC; Category: Inductors; Supplier Part Number 1: C250218; Tolerance: ±20%; Rated Current: 340mA; DC Resistance: 650mΩ; RoHS: Yes; ComponentLink1Description: Datasheet; ComponentLink1URL: https://wmsc.lcsc.com/wmsc/upload/file/pdf/v2/lcsc/2304140030_TDK-NLCV25T-3R3M-EF_C250218.pdf; ComponentLink2Description: JLCPCB Part URL; ComponentLink2URL: https://jlcpcb.com/partdetail/C250218; ComponentLink3Description: LCSC Part URL; ComponentLink3URL: https://lcsc.com/product-detail/Inductors-SMD_TDK-TDK-NLCV25T-3R3M-EF_C250218.html
footprint IND-1008 (1008 (2520M) Inductor)
pins: 1, 2

## NLCV25T-3R3M-EFD
designator L?  Inductance: 3.3uH
Inductor, 3.3uH, ±20%, 650mΩ, 340mA, SMD 1008; Manufacturer: TDK; Manufacturer Part Number: NLCV25T-3R3M-EFD; Q Factor: 20@7.96MHz; Package Size: 1008; JLCPCB Basic Part: No; JLCPCB Part Number: C295376; Supplier 1: LCSC; Category: Inductors; Supplier Part Number 1: C295376; Tolerance: ±20%; Rated Current: 340mA; DC Resistance: 650mΩ; RoHS: Yes; ComponentLink1Description: Datasheet; ComponentLink1URL: https://wmsc.lcsc.com/wmsc/upload/file/pdf/v2/lcsc/2304140030_TDK-NLCV25T-3R3M-EFD_C295376.pdf; ComponentLink2Description: JLCPCB Part URL; ComponentLink2URL: https://jlcpcb.com/partdetail/C295376; ComponentLink3Description: LCSC Part URL; ComponentLink3URL: https://lcsc.com/product-detail/Inductors-SMD_TDK-TDK-NLCV25T-3R3M-EFD_C295376.html
footprint IND-1008 (1008 (2520M) Inductor)
pins: 1, 2

## NLCV25T-3R3M-EFR
designator L?  Inductance: 3.3uH
Inductor, 3.3uH, ±20%, 440mΩ, 570mA, SMD 1008; Manufacturer: TDK; Manufacturer Part Number: NLCV25T-3R3M-EFR; Q Factor: 10@7.96MHz; Package Size: 1008; JLCPCB Basic Part: No; JLCPCB Part Number: C286540; Supplier 1: LCSC; Category: Inductors; Supplier Part Number 1: C286540; Tolerance: ±20%; Rated Current: 570mA; DC Resistance: 440mΩ; RoHS: Yes; ComponentLink1Description: Datasheet; ComponentLink1URL: https://wmsc.lcsc.com/wmsc/upload/file/pdf/v2/lcsc/2304140030_TDK-NLCV25T-3R3M-EFR_C286540.pdf; ComponentLink2Description: JLCPCB Part URL; ComponentLink2URL: https://jlcpcb.com/partdetail/C286540; ComponentLink3Description: LCSC Part URL; ComponentLink3URL: https://lcsc.com/product-detail/Inductors-SMD_TDK-TDK-NLCV25T-3R3M-EFR_C286540.html
footprint IND-1008 (1008 (2520M) Inductor)
pins: 1, 2

## NLCV25T-3R3M-EFRD
designator L?  Inductance: 3.3uH
Inductor, 3.3uH, ±20%, 440mΩ, 570mA, SMD 1008; Manufacturer: TDK; Manufacturer Part Number: NLCV25T-3R3M-EFRD; Self-Resonant Frequency: 54MHz; Q Factor: 10@7.96MHz; Package Size: 1008; JLCPCB Basic Part: No; JLCPCB Part Number: C295392; Supplier 1: LCSC; Category: Inductors; Supplier Part Number 1: C295392; Tolerance: ±20%; Rated Current: 570mA; DC Resistance: 440mΩ; RoHS: Yes; ComponentLink1Description: Datasheet; ComponentLink1URL: https://wmsc.lcsc.com/wmsc/upload/file/pdf/v2/lcsc/2304140030_TDK-NLCV25T-3R3M-EFRD_C295392.pdf; ComponentLink2Description: JLCPCB Part URL; ComponentLink2URL: https://jlcpcb.com/partdetail/C295392; ComponentLink3Description: LCSC Part URL; ComponentLink3URL: https://lcsc.com/product-detail/Inductors-SMD_TDK-TDK-NLCV25T-3R3M-EFRD_C295392.html
footprint IND-1008 (1008 (2520M) Inductor)
pins: 1, 2

## NLCV25T-4R7M-EF
designator L?  Inductance: 4.7uH
Inductor, 4.7uH, ±20%, 800mΩ, 285mA, SMD 1008; Manufacturer: TDK; Manufacturer Part Number: NLCV25T-4R7M-EF; Q Factor: 20@7.96MHz; Package Size: 1008; JLCPCB Basic Part: No; JLCPCB Part Number: C250219; Supplier 1: LCSC; Category: Inductors; Supplier Part Number 1: C250219; Tolerance: ±20%; Rated Current: 285mA; DC Resistance: 800mΩ; RoHS: Yes; ComponentLink1Description: Datasheet; ComponentLink1URL: https://wmsc.lcsc.com/wmsc/upload/file/pdf/v2/lcsc/2304140030_TDK-NLCV25T-4R7M-EF_C250219.pdf; ComponentLink2Description: JLCPCB Part URL; ComponentLink2URL: https://jlcpcb.com/partdetail/C250219; ComponentLink3Description: LCSC Part URL; ComponentLink3URL: https://lcsc.com/product-detail/Inductors-SMD_TDK-TDK-NLCV25T-4R7M-EF_C250219.html
footprint IND-1008 (1008 (2520M) Inductor)
pins: 1, 2

## NLCV25T-4R7M-EFD
designator L?  Inductance: 4.7uH
Inductor, 4.7uH, ±20%, 800mΩ, 285mA, SMD 1008; Manufacturer: TDK; Manufacturer Part Number: NLCV25T-4R7M-EFD; Q Factor: 20@7.96MHz; Package Size: 1008; JLCPCB Basic Part: No; JLCPCB Part Number: C286541; Supplier 1: LCSC; Category: Inductors; Supplier Part Number 1: C286541; Tolerance: ±20%; Rated Current: 285mA; DC Resistance: 800mΩ; RoHS: Yes; ComponentLink1Description: Datasheet; ComponentLink1URL: https://wmsc.lcsc.com/wmsc/upload/file/pdf/v2/lcsc/2304140030_TDK-NLCV25T-4R7M-EFD_C286541.pdf; ComponentLink2Description: JLCPCB Part URL; ComponentLink2URL: https://jlcpcb.com/partdetail/C286541; ComponentLink3Description: LCSC Part URL; ComponentLink3URL: https://lcsc.com/product-detail/Inductors-SMD_TDK-TDK-NLCV25T-4R7M-EFD_C286541.html
footprint IND-1008 (1008 (2520M) Inductor)
pins: 1, 2

## NLCV25T-4R7M-EFRD
designator L?  Inductance: 4.7uH
Inductor, 4.7uH, ±20%, 570mΩ, 500mA, SMD 1008; Manufacturer: TDK; Manufacturer Part Number: NLCV25T-4R7M-EFRD; Self-Resonant Frequency: 46MHz; Q Factor: 10@7.96MHz; Package Size: 1008; JLCPCB Basic Part: No; JLCPCB Part Number: C295393; Supplier 1: LCSC; Category: Inductors; Supplier Part Number 1: C295393; Tolerance: ±20%; Rated Current: 500mA; DC Resistance: 570mΩ; RoHS: Yes; ComponentLink1Description: Datasheet; ComponentLink1URL: https://wmsc.lcsc.com/wmsc/upload/file/pdf/v2/lcsc/2304140030_TDK-NLCV25T-4R7M-EFRD_C295393.pdf; ComponentLink2Description: JLCPCB Part URL; ComponentLink2URL: https://jlcpcb.com/partdetail/C295393; ComponentLink3Description: LCSC Part URL; ComponentLink3URL: https://lcsc.com/product-detail/Inductors-SMD_TDK-TDK-NLCV25T-4R7M-EFRD_C295393.html
footprint IND-1008 (1008 (2520M) Inductor)
pins: 1, 2

## NLCV25T-4R7M-PF
designator L?  Inductance: 4.7uH
Inductor, 4.7uH, ±20%, 800mΩ, 285mA, SMD 1008; Manufacturer: TDK; Manufacturer Part Number: NLCV25T-4R7M-PF; Q Factor: 20@7.96MHz; Package Size: 1008; JLCPCB Basic Part: No; JLCPCB Part Number: C250136; Supplier 1: LCSC; Category: Inductors; Supplier Part Number 1: C250136; Tolerance: ±20%; Rated Current: 285mA; DC Resistance: 800mΩ; RoHS: Yes; ComponentLink1Description: Datasheet; ComponentLink1URL: https://wmsc.lcsc.com/wmsc/upload/file/pdf/v2/lcsc/2304140030_TDK-NLCV25T-4R7M-PF_C250136.pdf; ComponentLink2Description: JLCPCB Part URL; ComponentLink2URL: https://jlcpcb.com/partdetail/C250136; ComponentLink3Description: LCSC Part URL; ComponentLink3URL: https://lcsc.com/product-detail/Inductors-SMD_TDK-TDK-NLCV25T-4R7M-PF_C250136.html
footprint IND-1008 (1008 (2520M) Inductor)
pins: 1, 2

## NLCV25T-6R8M-EFR
designator L?  Inductance: 6.8uH
Inductor, 6.8uH, ±20%, 920mΩ, 390mA, SMD 1008; Manufacturer: TDK; Manufacturer Part Number: NLCV25T-6R8M-EFR; Self-Resonant Frequency: 38MHz; Q Factor: 10@7.96MHz; Package Size: 1008; JLCPCB Basic Part: No; JLCPCB Part Number: C295340; Supplier 1: LCSC; Category: Inductors; Supplier Part Number 1: C295340; Tolerance: ±20%; Rated Current: 390mA; DC Resistance: 920mΩ; RoHS: Yes; ComponentLink1Description: Datasheet; ComponentLink1URL: https://wmsc.lcsc.com/wmsc/upload/file/pdf/v2/lcsc/1912111437_TDK-NLCV25T-6R8M-EFR_C295340.pdf; ComponentLink2Description: JLCPCB Part URL; ComponentLink2URL: https://jlcpcb.com/partdetail/C295340; ComponentLink3Description: LCSC Part URL; ComponentLink3URL: https://lcsc.com/product-detail/Inductors-SMD_TDK-TDK-NLCV25T-6R8M-EFR_C295340.html
footprint IND-1008 (1008 (2520M) Inductor)
pins: 1, 2

## NLCV25T-6R8M-EFRD
designator L?  Inductance: 6.8uH
Inductor, 6.8uH, ±20%, 920mΩ, 390mA, SMD 1008; Manufacturer: TDK; Manufacturer Part Number: NLCV25T-6R8M-EFRD; Q Factor: 10@7.96MHz; Package Size: 1008; JLCPCB Basic Part: No; JLCPCB Part Number: C295394; Supplier 1: LCSC; Category: Inductors; Supplier Part Number 1: C295394; Tolerance: ±20%; Rated Current: 390mA; DC Resistance: 920mΩ; RoHS: Yes; ComponentLink1Description: Datasheet; ComponentLink1URL: https://wmsc.lcsc.com/wmsc/upload/file/pdf/v2/lcsc/2304140030_TDK-NLCV25T-6R8M-EFRD_C295394.pdf; ComponentLink2Description: JLCPCB Part URL; ComponentLink2URL: https://jlcpcb.com/partdetail/C295394; ComponentLink3Description: LCSC Part URL; ComponentLink3URL: https://lcsc.com/product-detail/Inductors-SMD_TDK-TDK-NLCV25T-6R8M-EFRD_C295394.html
footprint IND-1008 (1008 (2520M) Inductor)
pins: 1, 2

## NLCV25T-6R8M-PF
designator L?  Inductance: 6.8uH
Inductor, 6.8uH, ±20%, 1Ω, 275mA, SMD 1008; Manufacturer: TDK; Manufacturer Part Number: NLCV25T-6R8M-PF; Self-Resonant Frequency: 39MHz; Q Factor: 20@7.96MHz; Package Size: 1008; JLCPCB Basic Part: No; JLCPCB Part Number: C250137; Supplier 1: LCSC; Category: Inductors; Supplier Part Number 1: C250137; Tolerance: ±20%; Rated Current: 275mA; DC Resistance: 1Ω; RoHS: Yes; ComponentLink1Description: Datasheet; ComponentLink1URL: https://wmsc.lcsc.com/wmsc/upload/file/pdf/v2/lcsc/2304140030_TDK-NLCV25T-6R8M-PF_C250137.pdf; ComponentLink2Description: JLCPCB Part URL; ComponentLink2URL: https://jlcpcb.com/partdetail/C250137; ComponentLink3Description: LCSC Part URL; ComponentLink3URL: https://lcsc.com/product-detail/Inductors-SMD_TDK-TDK-NLCV25T-6R8M-PF_C250137.html
footprint IND-1008 (1008 (2520M) Inductor)
pins: 1, 2

## NLCV25T-100K-EF
designator L?  Inductance: 10uH
Inductor, 10uH, ±10%, 1.69Ω, 210mA, SMD 1008; Manufacturer: TDK; Manufacturer Part Number: NLCV25T-100K-EF; Self-Resonant Frequency: 32MHz; Q Factor: 30@2.52MHz; Package Size: 1008; JLCPCB Basic Part: No; JLCPCB Part Number: C250221; Supplier 1: LCSC; Category: Inductors; Supplier Part Number 1: C250221; Tolerance: ±10%; Rated Current: 210mA; DC Resistance: 1.69Ω; RoHS: Yes; ComponentLink1Description: Datasheet; ComponentLink1URL: https://wmsc.lcsc.com/wmsc/upload/file/pdf/v2/lcsc/2304140030_TDK-NLCV25T-100K-EF_C250221.pdf; ComponentLink2Description: JLCPCB Part URL; ComponentLink2URL: https://jlcpcb.com/partdetail/C250221; ComponentLink3Description: LCSC Part URL; ComponentLink3URL: https://lcsc.com/product-detail/Inductors-SMD_TDK-TDK-NLCV25T-100K-EF_C250221.html
footprint IND-1008 (1008 (2520M) Inductor)
pins: 1, 2

## NLCV25T-100K-EFD
designator L?  Inductance: 10uH
Inductor, 10uH, ±10%, 1.69Ω, 210mA, SMD 1008; Manufacturer: TDK; Manufacturer Part Number: NLCV25T-100K-EFD; Q Factor: 30@2.52MHz; Package Size: 1008; JLCPCB Basic Part: No; JLCPCB Part Number: C286535; Supplier 1: LCSC; Category: Inductors; Supplier Part Number 1: C286535; Tolerance: ±10%; Rated Current: 210mA; DC Resistance: 1.69Ω; RoHS: Yes; ComponentLink1Description: Datasheet; ComponentLink1URL: https://wmsc.lcsc.com/wmsc/upload/file/pdf/v2/lcsc/2304140030_TDK-NLCV25T-100K-EFD_C286535.pdf; ComponentLink2Description: JLCPCB Part URL; ComponentLink2URL: https://jlcpcb.com/partdetail/C286535; ComponentLink3Description: LCSC Part URL; ComponentLink3URL: https://lcsc.com/product-detail/Inductors-SMD_TDK-TDK-NLCV25T-100K-EFD_C286535.html
footprint IND-1008 (1008 (2520M) Inductor)
pins: 1, 2

## NLCV25T-100K-EFRD
designator L?  Inductance: 10uH
Inductor, 10uH, ±10%, 1.1Ω, 360mA, SMD 1008; Manufacturer: TDK; Manufacturer Part Number: NLCV25T-100K-EFRD; Q Factor: 15@2.52MHz; Package Size: 1008; JLCPCB Basic Part: No; JLCPCB Part Number: C295388; Supplier 1: LCSC; Category: Inductors; Supplier Part Number 1: C295388; Tolerance: ±10%; Rated Current: 360mA; DC Resistance: 1.1Ω; RoHS: Yes; ComponentLink1Description: Datasheet; ComponentLink1URL: https://wmsc.lcsc.com/wmsc/upload/file/pdf/v2/lcsc/2304140030_TDK-NLCV25T-100K-EFRD_C295388.pdf; ComponentLink2Description: JLCPCB Part URL; ComponentLink2URL: https://jlcpcb.com/partdetail/C295388; ComponentLink3Description: LCSC Part URL; ComponentLink3URL: https://lcsc.com/product-detail/Inductors-SMD_TDK-TDK-NLCV25T-100K-EFRD_C295388.html
footprint IND-1008 (1008 (2520M) Inductor)
pins: 1, 2

## NLCV25T-100K-PF
designator L?  Inductance: 10uH
Inductor, 10uH, ±10%, 1.69Ω, 210mA, SMD 1008; Manufacturer: TDK; Manufacturer Part Number: NLCV25T-100K-PF; Self-Resonant Frequency: 32MHz; Q Factor: 30@2.52MHz; Package Size: 1008; JLCPCB Basic Part: No; JLCPCB Part Number: C250138; Supplier 1: LCSC; Category: Inductors; Supplier Part Number 1: C250138; Tolerance: ±10%; Rated Current: 210mA; DC Resistance: 1.69Ω; RoHS: Yes; ComponentLink1Description: Datasheet; ComponentLink1URL: https://wmsc.lcsc.com/wmsc/upload/file/pdf/v2/lcsc/2304140030_TDK-NLCV25T-100K-PF_C250138.pdf; ComponentLink2Description: JLCPCB Part URL; ComponentLink2URL: https://jlcpcb.com/partdetail/C250138; ComponentLink3Description: LCSC Part URL; ComponentLink3URL: https://lcsc.com/product-detail/Inductors-SMD_TDK-TDK-NLCV25T-100K-PF_C250138.html
footprint IND-1008 (1008 (2520M) Inductor)
pins: 1, 2

## NLCV25T-150K-EF
designator L?  Inductance: 15uH
Inductor, 15uH, ±10%, 2.2Ω, 175mA, SMD 1008; Manufacturer: TDK; Manufacturer Part Number: NLCV25T-150K-EF; Q Factor: 30@2.52MHz; Package Size: 1008; JLCPCB Basic Part: No; JLCPCB Part Number: C250222; Supplier 1: LCSC; Category: Inductors; Supplier Part Number 1: C250222; Tolerance: ±10%; Rated Current: 175mA; DC Resistance: 2.2Ω; RoHS: Yes; ComponentLink1Description: Datasheet; ComponentLink1URL: https://wmsc.lcsc.com/wmsc/upload/file/pdf/v2/lcsc/2304140030_TDK-NLCV25T-150K-EF_C250222.pdf; ComponentLink2Description: JLCPCB Part URL; ComponentLink2URL: https://jlcpcb.com/partdetail/C250222; ComponentLink3Description: LCSC Part URL; ComponentLink3URL: https://lcsc.com/product-detail/Inductors-SMD_TDK-TDK-NLCV25T-150K-EF_C250222.html
footprint IND-1008 (1008 (2520M) Inductor)
pins: 1, 2

## NLCV25T-150K-PF
designator L?  Inductance: 15uH
Inductor, 15uH, ±10%, 2.2Ω, 175mA, SMD 1008; Manufacturer: TDK; Manufacturer Part Number: NLCV25T-150K-PF; Q Factor: 30@2.52MHz; Package Size: 1008; JLCPCB Basic Part: No; JLCPCB Part Number: C250139; Supplier 1: LCSC; Category: Inductors; Supplier Part Number 1: C250139; Tolerance: ±10%; Rated Current: 175mA; DC Resistance: 2.2Ω; RoHS: Yes; ComponentLink1Description: Datasheet; ComponentLink1URL: https://wmsc.lcsc.com/wmsc/upload/file/pdf/v2/lcsc/2304140030_TDK-NLCV25T-150K-PF_C250139.pdf; ComponentLink2Description: JLCPCB Part URL; ComponentLink2URL: https://jlcpcb.com/partdetail/C250139; ComponentLink3Description: LCSC Part URL; ComponentLink3URL: https://lcsc.com/product-detail/Inductors-SMD_TDK-TDK-NLCV25T-150K-PF_C250139.html
footprint IND-1008 (1008 (2520M) Inductor)
pins: 1, 2

## NLCV25T-220K-EF
designator L?  Inductance: 22uH
Inductor, 22uH, ±10%, 2.8Ω, 160mA, SMD 1008; Manufacturer: TDK; Manufacturer Part Number: NLCV25T-220K-EF; Q Factor: 30@2.52MHz; Package Size: 1008; JLCPCB Basic Part: No; JLCPCB Part Number: C250223; Supplier 1: LCSC; Category: Inductors; Supplier Part Number 1: C250223; Tolerance: ±10%; Rated Current: 160mA; DC Resistance: 2.8Ω; RoHS: Yes; ComponentLink1Description: Datasheet; ComponentLink1URL: https://wmsc.lcsc.com/wmsc/upload/file/pdf/v2/lcsc/2304140030_TDK-NLCV25T-220K-EF_C250223.pdf; ComponentLink2Description: JLCPCB Part URL; ComponentLink2URL: https://jlcpcb.com/partdetail/C250223; ComponentLink3Description: LCSC Part URL; ComponentLink3URL: https://lcsc.com/product-detail/Inductors-SMD_TDK-TDK-NLCV25T-220K-EF_C250223.html
footprint IND-1008 (1008 (2520M) Inductor)
pins: 1, 2

## NLCV25T-220K-EFD
designator L?  Inductance: 22uH
Inductor, 22uH, ±10%, 2.8Ω, 160mA, SMD 1008; Manufacturer: TDK; Manufacturer Part Number: NLCV25T-220K-EFD; Q Factor: 30@2.52MHz; Package Size: 1008; JLCPCB Basic Part: No; JLCPCB Part Number: C295374; Supplier 1: LCSC; Category: Inductors; Supplier Part Number 1: C295374; Tolerance: ±10%; Rated Current: 160mA; DC Resistance: 2.8Ω; RoHS: Yes; ComponentLink1Description: Datasheet; ComponentLink1URL: https://wmsc.lcsc.com/wmsc/upload/file/pdf/v2/lcsc/1912111437_TDK-NLCV25T-220K-EFD_C295374.pdf; ComponentLink2Description: JLCPCB Part URL; ComponentLink2URL: https://jlcpcb.com/partdetail/C295374; ComponentLink3Description: LCSC Part URL; ComponentLink3URL: https://lcsc.com/product-detail/Inductors-SMD_TDK-TDK-NLCV25T-220K-EFD_C295374.html
footprint IND-1008 (1008 (2520M) Inductor)
pins: 1, 2

## NLCV25T-220K-PF
designator L?  Inductance: 22uH
Inductor, 22uH, ±10%, 2.8Ω, 160mA, SMD 1008; Manufacturer: TDK; Manufacturer Part Number: NLCV25T-220K-PF; Self-Resonant Frequency: 18MHz; Q Factor: 30@2.52MHz; Package Size: 1008; JLCPCB Basic Part: No; JLCPCB Part Number: C136260; Supplier 1: LCSC; Category: Inductors; Supplier Part Number 1: C136260; Tolerance: ±10%; Rated Current: 160mA; DC Resistance: 2.8Ω; RoHS: Yes; ComponentLink1Description: Datasheet; ComponentLink1URL: https://wmsc.lcsc.com/wmsc/upload/file/pdf/v2/lcsc/2304140030_TDK-NLCV25T-220K-PF_C136260.pdf; ComponentLink2Description: JLCPCB Part URL; ComponentLink2URL: https://jlcpcb.com/partdetail/C136260; ComponentLink3Description: LCSC Part URL; ComponentLink3URL: https://lcsc.com/product-detail/Inductors-SMD_TDK-TDK-NLCV25T-220K-PF_C136260.html
footprint IND-1008 (1008 (2520M) Inductor)
pins: 1, 2

## NLCV25T-330K-EFD
designator L?  Inductance: 33uH
Inductor, 33uH, ±10%, 4.2Ω, 120mA, SMD 1008; Manufacturer: TDK; Manufacturer Part Number: NLCV25T-330K-EFD; Q Factor: 30@2.52MHz; Package Size: 1008; JLCPCB Basic Part: No; JLCPCB Part Number: C286539; Supplier 1: LCSC; Category: Inductors; Supplier Part Number 1: C286539; Tolerance: ±10%; Rated Current: 120mA; DC Resistance: 4.2Ω; RoHS: Yes; ComponentLink1Description: Datasheet; ComponentLink1URL: https://wmsc.lcsc.com/wmsc/upload/file/pdf/v2/lcsc/2304140030_TDK-NLCV25T-330K-EFD_C286539.pdf; ComponentLink2Description: JLCPCB Part URL; ComponentLink2URL: https://jlcpcb.com/partdetail/C286539; ComponentLink3Description: LCSC Part URL; ComponentLink3URL: https://lcsc.com/product-detail/Inductors-SMD_TDK-TDK-NLCV25T-330K-EFD_C286539.html
footprint IND-1008 (1008 (2520M) Inductor)
pins: 1, 2

## NLCV25T-330K-PF
designator L?  Inductance: 33uH
Inductor, 33uH, ±10%, 4.2Ω, 120mA, SMD 1008; Manufacturer: TDK; Manufacturer Part Number: NLCV25T-330K-PF; Self-Resonant Frequency: 16MHz; Q Factor: 30@2.52MHz; Package Size: 1008; JLCPCB Basic Part: No; JLCPCB Part Number: C250140; Supplier 1: LCSC; Category: Inductors; Supplier Part Number 1: C250140; Tolerance: ±10%; Rated Current: 120mA; DC Resistance: 4.2Ω; RoHS: Yes; ComponentLink1Description: Datasheet; ComponentLink1URL: https://wmsc.lcsc.com/wmsc/upload/file/pdf/v2/lcsc/1810241920_TDK-NLCV25T-330K-PF_C250140.pdf; ComponentLink2Description: JLCPCB Part URL; ComponentLink2URL: https://jlcpcb.com/partdetail/C250140; ComponentLink3Description: LCSC Part URL; ComponentLink3URL: https://lcsc.com/product-detail/Inductors-SMD_TDK-TDK-NLCV25T-330K-PF_C250140.html
footprint IND-1008 (1008 (2520M) Inductor)
pins: 1, 2

## NLCV25T-R15M-EFR
designator L?  Inductance: 150nH
Inductor, 150nH, ±20%, 44mΩ, 1.8A, SMD 1008; Manufacturer: TDK; Manufacturer Part Number: NLCV25T-R15M-EFR; Self-Resonant Frequency: 500MHz; Q Factor: 5@25.2MHz; Package Size: 1008; JLCPCB Basic Part: No; JLCPCB Part Number: C295223; Supplier 1: LCSC; Category: Inductors; Supplier Part Number 1: C295223; Tolerance: ±20%; Rated Current: 1.8A; DC Resistance: 44mΩ; RoHS: Yes; ComponentLink1Description: Datasheet; ComponentLink1URL: https://wmsc.lcsc.com/wmsc/upload/file/pdf/v2/lcsc/2304140030_TDK-NLCV25T-R15M-EFR_C295223.pdf; ComponentLink2Description: JLCPCB Part URL; ComponentLink2URL: https://jlcpcb.com/partdetail/C295223; ComponentLink3Description: LCSC Part URL; ComponentLink3URL: https://lcsc.com/product-detail/Inductors-SMD_TDK-TDK-NLCV25T-R15M-EFR_C295223.html
footprint IND-1008 (1008 (2520M) Inductor)
pins: 1, 2